# Altium footprint library JST_B2B-PH-K-S.PcbLib: 1 footprints
Each footprint in its own frame and in the unit in brackets; x right, y up, seen from the top. Pads: shape width x height; smd on the part's side, far side on the other; paste and mask are expansions set on the pad; w line width, h text height; cw(c..) or ccw(c..) is an arc to the next point about the centre after c.
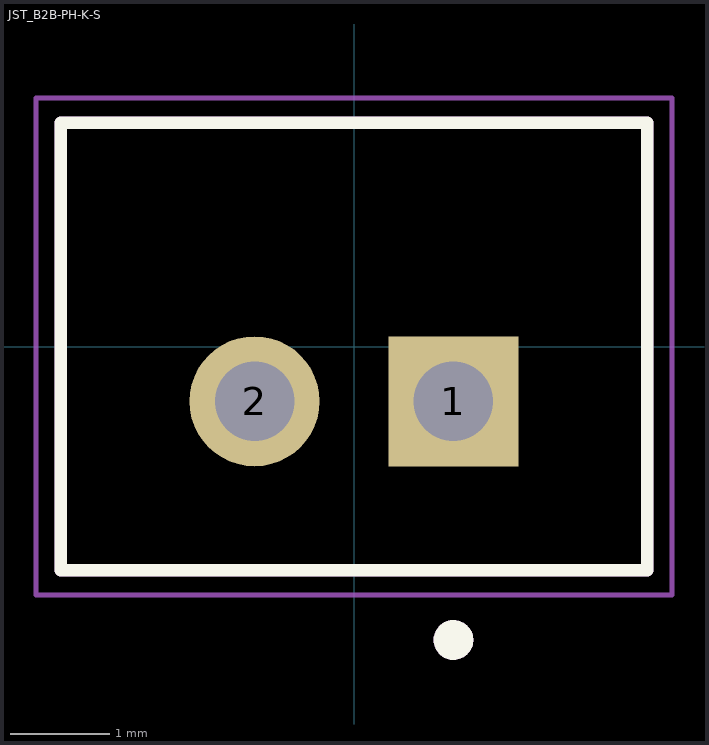
[diagram p0: the footprint, top view; thin cyan lines are the x and y axes]

## JST_B2B-PH-K-S [mm]
pads (2):
  rect 1.308x1.308 / inner round 1.308 / far side rect 1.308x1.308 hole 0.8: 1(1,-0.55)
  round 1.308 hole 0.8: 2(-1,-0.55)
Top Overlay:
  circle w0.2: c1,-2.95 r0.1
  lines w0.127: -2.95,-2.25 -2.95,2.25 2.95,2.25 2.95,-2.25 -2.95,-2.25
Mechanical 13:
  circle w0.2: c1,-2.95 r0.1
  lines w0.127: -2.95,-2.25 2.95,-2.25 2.95,2.25 -2.95,2.25 -2.95,-2.25
Mechanical 15:
  lines w0.05: -3.2,-2.5 3.2,-2.5 3.2,2.5 -3.2,2.5 -3.2,-2.5
3D body "step_temp.STEP": height 6, standoff -3.4, extent -2.95,-2.25 2.95,2.25